# Altium footprint library M1.pcblib: 2 footprints
Each footprint in its own frame and in the unit in brackets; x right, y up, seen from the top. Pads: shape width x height; smd on the part's side, far side on the other; paste and mask are expansions set on the pad; w line width, h text height; cw(c..) or ccw(c..) is an arc to the next point about the centre after c.
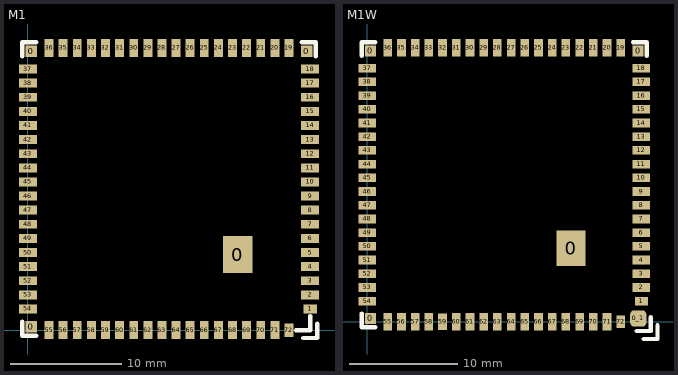
[diagram p0: the footprints below, top view; thin cyan lines are the x and y axes]

## M1 [mm]
height 8.2
pads (76):
  rect 1x1 smd mask+0.051: 0(0.3,0.3) 0(0.3,25.1) 0(25.1,25.1)
  rect 2.667x3.302 smd mask+0.051: 0(18.9,6.8)
  rect 1.2x0.8 smd mask+0.051: 1(25.4,1.905)
  rect 1.6x0.8 smd mask+0.051: 2(25.4,3.175) 3(25.4,4.445) 4(25.4,5.715) 5(25.4,6.985) 6(25.4,8.255) 7(25.4,9.525) 8(25.4,10.795) 9(25.4,12.065) 10(25.4,13.335) 11(25.4,14.605) 12(25.4,15.875) 13(25.4,17.145) 14(25.4,18.415) 15(25.4,19.685) 16(25.4,20.955) 17(25.4,22.225) 18(25.4,23.495) 37(0,23.495) 38(0,22.225) 39(0,20.955) 40(0,19.685) 41(0,18.415) 42(0,17.145) 43(0,15.875) 44(0,14.605) 45(0,13.335) 46(0,12.065) 47(0,10.795) 48(0,9.525) 49(0,8.255) 50(0,6.985) 51(0,5.715) 52(0,4.445) 53(0,3.175) 54(0,1.905)
  rect 0.8x1.6 smd mask+0.051: 19(23.495,25.4) 20(22.225,25.4) 21(20.955,25.4) 22(19.685,25.4) 23(18.415,25.4) 24(17.145,25.4) 25(15.875,25.4) 26(14.605,25.4) 27(13.335,25.4) 28(12.065,25.4) 29(10.795,25.4) 30(9.525,25.4) 31(8.255,25.4) 32(6.985,25.4) 33(5.715,25.4) 34(4.445,25.4) 35(3.175,25.4) 36(1.905,25.4) 55(1.905,0) 56(3.175,0) 57(4.445,0) 58(5.715,0) 59(6.985,0) 60(8.255,0) 61(9.525,0) 62(10.795,0) 63(12.065,0) 64(13.335,0) 65(14.605,0) 66(15.875,0) 67(17.145,0) 68(18.415,0) 69(19.685,0) 70(20.955,0) 71(22.225,0)
  rect 0.8x1.2 smd mask+0.051: 72(23.495,0)
Top Overlay:
  lines w0.4: -0.508,0.762 -0.508,-0.508 0.762,-0.508 ; -0.508,24.638 -0.508,25.908 0.762,25.908 ; 24.13,0 25.4,0 25.4,1.27 ; 24.638,25.908 25.908,25.908 25.908,24.638 ; 24.79,-0.711 26.06,-0.711 26.06,0.559
3D body "K210 core.step": height 3, standoff 0.2, extent 0,0 25.4,25.4

## M1W [mm]
height 8.2
pads (77):
  rect 1x1 smd mask+0.051: 0(0.3,0.3) 0(0.3,25.1) 0(25.1,25.1)
  rect 2.667x3.302 smd mask+0.051: 0(18.9,6.8)
  rrect50% 1.5x1.5 smd mask+0.051: 0_1(25.123,0.3)
  rect 1.2x0.8 smd mask+0.051: 1(25.4,1.905)
  rect 1.6x0.8 smd mask+0.051: 2(25.4,3.175) 3(25.4,4.445) 4(25.4,5.715) 5(25.4,6.985) 6(25.4,8.255) 7(25.4,9.525) 8(25.4,10.795) 9(25.4,12.065) 10(25.4,13.335) 11(25.4,14.605) 12(25.4,15.875) 13(25.4,17.145) 14(25.4,18.415) 15(25.4,19.685) 16(25.4,20.955) 17(25.4,22.225) 18(25.4,23.495) 37(0,23.495) 38(0,22.225) 39(0,20.955) 40(0,19.685) 41(0,18.415) 42(0,17.145) 43(0,15.875) 44(0,14.605) 45(0,13.335) 46(0,12.065) 47(0,10.795) 48(0,9.525) 49(0,8.255) 50(0,6.985) 51(0,5.715) 52(0,4.445) 53(0,3.175) 54(0,1.905)
  rect 0.8x1.6 smd mask+0.051: 19(23.495,25.4) 20(22.225,25.4) 21(20.955,25.4) 22(19.685,25.4) 23(18.415,25.4) 24(17.145,25.4) 25(15.875,25.4) 26(14.605,25.4) 27(13.335,25.4) 28(12.065,25.4) 29(10.795,25.4) 30(9.525,25.4) 31(8.255,25.4) 32(6.985,25.4) 33(5.715,25.4) 34(4.445,25.4) 35(3.175,25.4) 36(1.905,25.4) 55(1.905,0) 56(3.175,0) 57(4.445,0) 58(5.715,0) 60(8.255,0) 61(9.525,0) 62(10.795,0) 63(12.065,0) 64(13.335,0) 65(14.605,0) 66(15.875,0) 67(17.145,0) 68(18.415,0) 69(19.685,0) 70(20.955,0) 71(22.225,0)
  rect 0.8x1.5 smd mask+0.051: 59(6.985,0)
  rect 0.8x1.2 smd mask+0.051: 72(23.495,0)
Top Overlay:
  lines w0.4: -0.508,0.762 -0.508,-0.508 0.762,-0.508 ; -0.508,24.638 -0.508,25.908 0.762,25.908 ; 24.638,25.908 25.908,25.908 25.908,24.638 ; 24.994,-0.864 26.264,-0.864 26.264,0.406 ; 25.629,-1.6 26.899,-1.6 26.899,-0.33
3D body "K210 core.step": height 3, standoff 0.2, extent 0,0 25.4,25.4